# Altium footprint library IDC20.PcbLib: 1 footprints
Each footprint in its own frame and in the unit in brackets; x right, y up, seen from the top. Pads: shape width x height; smd on the part's side, far side on the other; paste and mask are expansions set on the pad; w line width, h text height; cw(c..) or ccw(c..) is an arc to the next point about the centre after c.
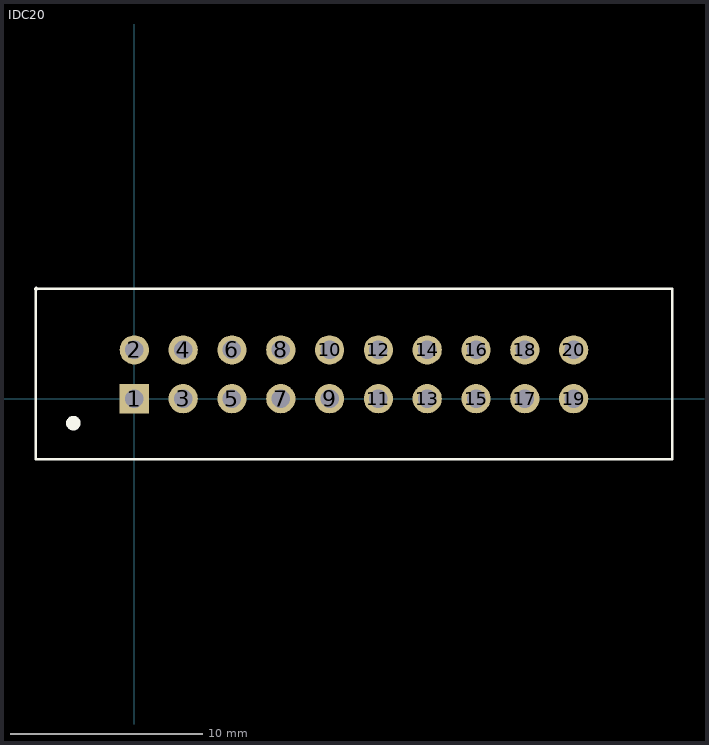
[diagram p0: the footprint, top view; thin cyan lines are the x and y axes]

## IDC20 [mil]
pads (20):
  rect 60x60 hole 38: 1(0,0)
  round 60 hole 38: 2(0,100) 3(100,0) 4(100,100) 5(200,0) 6(200,100) 7(300,0) 8(300,100) 9(400,0) 10(400,100) 11(500,0) 12(500,100) 13(600,0) 14(600,100) 15(700,0) 16(700,100) 17(800,0) 18(800,100) 19(900,0) 20(900,100)
Top Overlay:
  circle w10: c-123.46,-50 r4.92
  circle w10: c-125,-50 r10
  lines w5: -201.79,224.71 -201.79,-124.2 1101.79,-124.2 1101.79,224.71 ; -201,225.5 1101.79,225.5
  lines w7.87: -201.79,224.71 -201,225.5
3D body: height 350, standoff -130.31, extent -193.7,-116 1093.7,218.65